# Altium schematic symbol library SCH - RF - MODULE - U-BLOX NEO-M8N.SchLib: 1 symbol
Pins are listed as number, name and electrical type; pins without a type are passive.

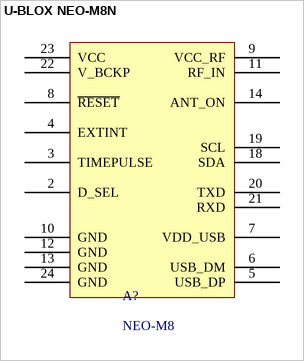
[diagram p0: symbol U-BLOX NEO-M8N]

## U-BLOX NEO-M8N
designator A?, comment NEO-M8
u-blox NEO GPS Module
pins: 2 D_SEL, 3 TIMEPULSE, 4 EXTINT, 5 USB_DP, 6 USB_DM, 7 VDD_USB, 8 ~{RESET}, 9 VCC_RF, 10 GND, 11 RF_IN, 12 GND, 13 GND, 14 ANT_ON, 18 SDA, 19 SCL, 20 TXD, 21 RXD, 22 V_BCKP, 23 VCC, 24 GND